# Altium footprint library TP R55.PcbLib: 1 footprints
Each footprint in its own frame and in the unit in brackets; x right, y up, seen from the top. Pads: shape width x height; smd on the part's side, far side on the other; paste and mask are expansions set on the pad; w line width, h text height; cw(c..) or ccw(c..) is an arc to the next point about the centre after c.
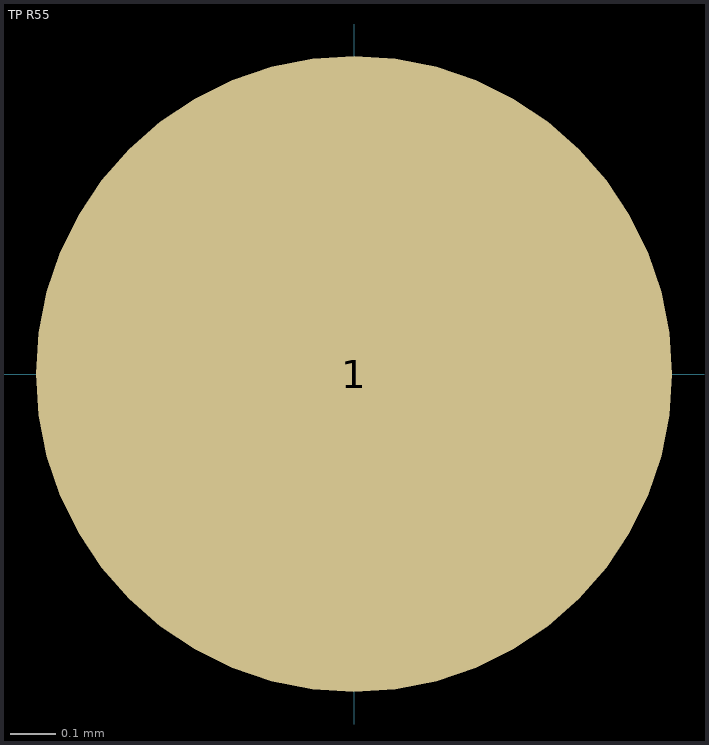
[diagram p0: the footprint, top view; thin cyan lines are the x and y axes]

## TP R55 [mil] "Testpoint, Round, 55 mil Surface Pad"
height 0
pads (1):
  round 55 smd paste-35: 1(0,0)
Mechanical 4:
  circle w30: c0,0 r12
3D body: height 0, standoff 0, extent -21.74,-21.69 21.57,21.61
3D body: height 0, standoff 0, extent -17.59,-17.55 17.45,17.48